# Altium footprint library LEDDimmerLib.PcbLib: 39 footprints (part 2 of 3)
Each footprint in its own frame and in the unit in brackets; x right, y up, seen from the top. Pads: shape width x height; smd on the part's side, far side on the other; paste and mask are expansions set on the pad; w line width, h text height; cw(c..) or ccw(c..) is an arc to the next point about the centre after c.
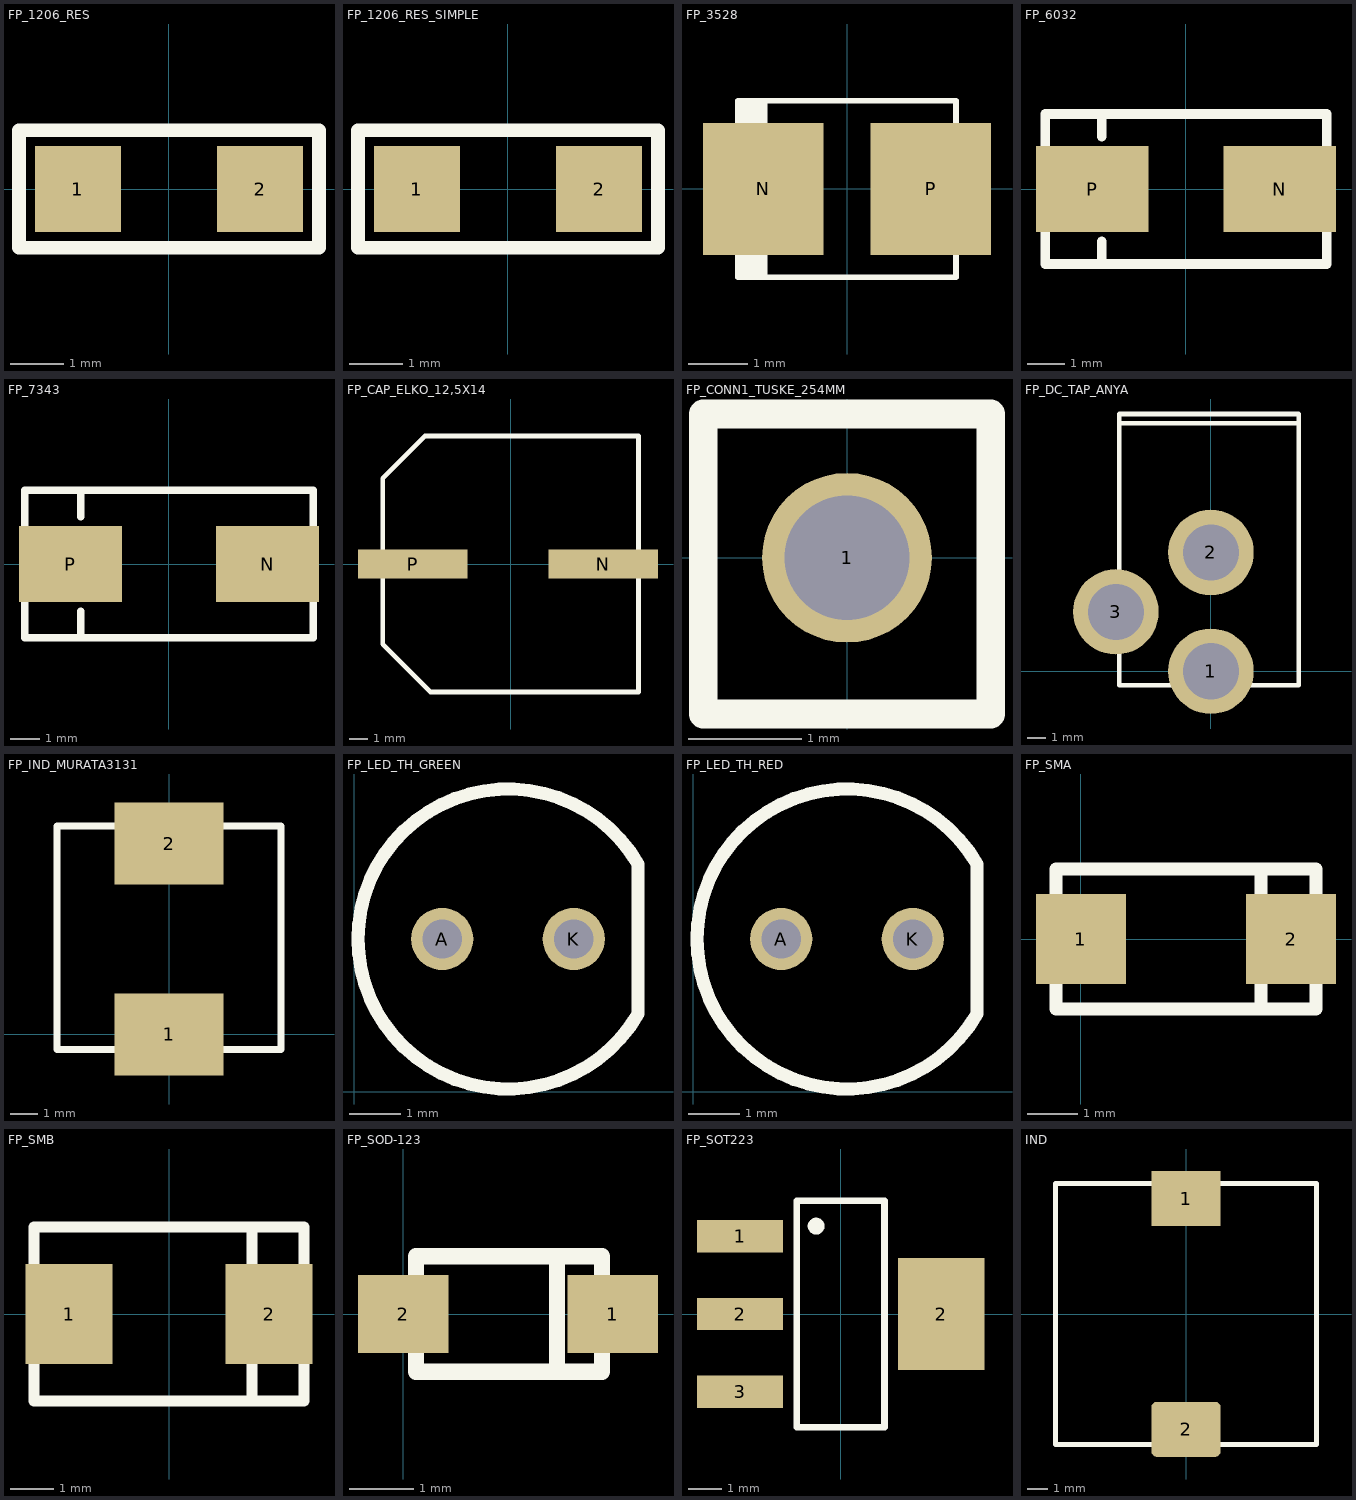
[diagram p1: the footprints below, top view; thin cyan lines are the x and y axes]

## FP_1206_RES [mm] "1206 ellenállás"
height 0.5
pads (2):
  rect 1.6x1.6 smd: 1(-1.7,0) 2(1.7,0)
Top Overlay:
  lines w0.254: -2.8,-1.1 -2.8,1.1 2.8,1.1 2.8,-1.1 -2.8,-1.1
3D body "1206RES.STEP": height 0.62, standoff 0.02, extent -1.6,-0.8 1.6,0.8

## FP_1206_RES_SIMPLE [mm] "1206 ellenállás, amit én csináltam"
height 0.5
pads (2):
  rect 1.6x1.6 smd: 1(-1.7,0) 2(1.7,0)
Top Overlay:
  lines w0.254: -2.8,-1.1 -2.8,1.1 2.8,1.1 2.8,-1.1 -2.8,-1.1
3D body: height 0.5, standoff 0, extent -1.522,-0.787 -1.065,0.787
3D body: height 0.5, standoff 0, extent 1.119,-0.787 1.577,0.787
3D body: height 0.5, standoff 0, extent -1.065,-0.787 1.119,0.787

## FP_3528 [mm] "3528 TANTÁL SMD \"B\"-TOK"
height 1.9
pads (2):
  rect 2.05x2.25 smd: N(-1.425,0) P(1.425,0)
Top Overlay:
  rectangle: -1.85,-1.5 -1.352,1.5
  lines w0.1: -1.85,-1.5 -1.85,1.5 1.85,1.5 1.85,-1.5 -1.85,-1.5
3D body "CAP3528-B.STEP": height 2.11, standoff -0.04, extent -2.517,-1.499 2.482,1.499

## FP_6032 [mm]
pads (2):
  rect 3x2.3 smd: N(2.5,0) P(-2.5,0)
Top Overlay:
  lines w0.254: -2.25,-2 -2.25,-1.4 ; -2.25,1.4 -2.25,2 ; -3.75,-2 -3.75,2 3.75,2 3.75,-2 -3.75,-2
3D body "CAP6032-C.STEP": height 2.79, standoff -0.04, extent -3.763,-1.735 3.835,1.778

## FP_7343 [mm]
pads (2):
  rect 3.5x2.6 smd: N(3.35,0) P(-3.35,0)
Top Overlay:
  lines w0.254: -3,-2.5 -3,-1.6 ; -3,1.6 -3,2.5 ; -4.9,-2.5 4.9,-2.5 4.9,2.5 -4.9,2.5 -4.9,-2.5
3D body "CAP7343-D.STEP": height 3.1, standoff -0.04, extent -4.494,-2.305 4.502,2.305

## FP_CAP_ELKO_12,5X14 [mm] "680 uF/SMD-NIC ELKO 35 V 105°C 20 % KIS IMPEDANCIÁS SMD O12.5x14mm"
height 14
pads (2):
  rect 6x1.6 smd: N(5.066,0) P(-5.348,0)
Top Overlay:
  lines w0.254: -7,-4.4 -4.4,-7 7,-7 7,7 -4.7,7 -7,4.7 -7,-4.4
3D body: height 0.3, standoff 0, extent -7,-7 7,7
3D body: height 14, standoff 0, extent -6.226,-6.05 6.225,6.425

## FP_CONN1_TUSKE_254MM [mm] "1×1 tüskesor"
height 8.54
pads (1):
  round 1.5 hole 1.1: 1(0,0)
Top Overlay:
  lines w0.254: -1.27,-1.38 1.27,-1.38 1.27,1.27 -1.27,1.27 -1.27,-1.38
3D body: height 2.54, standoff 0, extent -1.27,-1.27 1.27,1.27
3D body: height 0, standoff -3, extent -0.33,-0.33 0.33,0.33
3D body: height 8.54, standoff 2.54, extent -0.33,-0.33 0.33,0.33

## FP_DC_TAP_ANYA [mil] "DC HEBA25 TÁPFESZÜLTSÉG ALJZAT ZÁRT, NYÁKBA 90°"
height 421.26
pads (3):
  round 180 hole 118: 1(0,0) 2(0,250) 3(-200,125)
Top Overlay:
  lines w10: -192.91,522.13 185.04,522.13 ; -192.91,-29.53 185.04,-29.53 185.04,541.34 -192.91,541.34 -192.91,-29.53
3D body "kycon kld-0202-a.step": height 440, standoff -141.73, extent -190.39,-30.63 182.52,539.37

## FP_IND_MURATA3131 [mm] "Murata Chip Inductor LQH88P Series (3131 Size)"
height 4
pads (2):
  rect 4x3 smd: 1(0,0) 2(0,7)
Top Overlay:
  lines w0.254: -4.1,-0.55 4.1,-0.55 4.1,7.65 -4.1,7.65 -4.1,-0.55
3D body: height 0.3, standoff 0, extent -1.4,7.6 1.4,7.65
3D body: height 0.3, standoff 0, extent -1.4,-0.55 1.4,-0.5
3D body: height 2.8, standoff 1, extent -3.572,-0.043 3.6,7.143
3D body: height 3.8, standoff 2.8, extent -4,-0.5 4,7.6
3D body: height 1, standoff 0, extent -4,-0.5 4,7.6

## FP_LED_TH_GREEN [mm]
pads (2):
  round 1.2 hole 0.762: A(1.7,2.95) K(4.24,2.95)
Top Overlay:
  lines w0.254: 5.478,1.502 cw(c2.97,2.95) 5.478,4.398 5.478,1.502
3D body "corto_green.step": height 10.25, standoff -5, extent 0,0 5.45,5.9

## FP_LED_TH_RED [mm]
pads (2):
  round 1.2 hole 0.762: A(1.7,2.95) K(4.24,2.95)
Top Overlay:
  lines w0.254: 5.478,1.502 cw(c2.97,2.95) 5.478,4.398 5.478,1.502
3D body "corto_red.step": height 10.25, standoff -5, extent 0,0 5.45,5.9

## FP_SMA [mm] "SMA DO-214AC tok"
height 2.2
pads (2):
  rect 1.8x1.8 smd: 1(0,0) 2(4.2,0)
Top Overlay:
  lines w0.254: 3.6,-1.4 3.6,1.4 ; -0.5,-1.4 -0.5,1.4 4.7,1.4 4.7,-1.4 -0.5,-1.4
3D body "SMA.STEP": height 2.42, standoff 0.02, extent -0.5,-1.3 4.7,1.3

## FP_SMB [mm] "DO214-AA tok (SMB)"
height 2.5
pads (2):
  rect 2x2.3 smd: 1(-2.3,0) 2(2.3,0)
Top Overlay:
  lines w0.254: 1.905,-2 1.905,2 ; 3.1,2 3.1,2 ; 3.1,2 3.1,-2 -3.1,-2 -3.1,2 3.1,2
3D body "DO-214AA SMB.STEP": height 2.32, standoff 0.02, extent -2.7,-1.8 2.7,1.8

## FP_SOD-123 [mm]
height 1.168
pads (2):
  rect 1.41x1.22 smd: 1(3.27,0) 2(0,0)
Top Overlay:
  lines w0.254: 2.4,-0.9 2.4,0.9 ; 0.2,-0.9 3.1,-0.9 3.1,0.9 0.2,0.9 0.2,-0.9
3D body "SOD-123_DiodesInc.STEP": height 1.47, standoff 0.02, extent -0.3,-0.85 3.55,0.85

## FP_SOT223 [mm] "SOT223 package, 3 leads"
height 1.8
pads (4):
  rect 2.55x0.95 smd: 1(-2.975,2.3) 2(-2.975,0) 3(-2.975,-2.3)
  rect 2.55x3.3 smd: 2(2.975,0)
Top Overlay:
  circle w0.25: c-0.725,2.6 r0.125
  lines w0.2: -1.3,-3.35 -1.3,3.35 1.3,3.35 1.3,-3.35 -1.3,-3.35
3D body "SOT-223-1.STEP": height 1.65, standoff 0, extent -3.5,-3.25 3.5,3.25

## IND [mm] "Inductor 33uH"
pads (2):
  rect 3.4x2.7 smd: 1(0,5.65)
  rrect20% 3.4x2.7 smd: 2(0,-5.65)
Top Overlay:
  lines w0.254: -6.4,-6.4 -6.4,6.4 6.4,6.4 6.4,-6.4 -6.4,-6.4
3D body "inductor.stp": height 7.5, standoff 0, extent -6.25,-6.25 6.25,6.25